# Altium schematic symbol library B560C-13-F.SchLib: 1 symbol
Pins are listed as number, name and electrical type; pins without a type are passive.

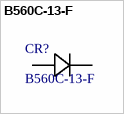
[diagram p0: symbol B560C-13-F]

## B560C-13-F
designator CR?
Description; Manufacturer_Name: Diodes Inc; Copyright: Copyright (C) 2025 Ultra Librarian. All rights reserved.; Manufacturer_Part_Number: B560C-13-F
footprint SMC_DIO
pins: 1, 2